# Altium schematic symbol library HC-49.SchLib: 1 symbol
Pins are listed as number, name and electrical type; pins without a type are passive.

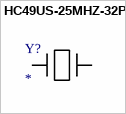
[diagram p0: symbol HC49US-25MHZ-32P]

## HC49US-25MHZ-32P
designator Y?
Imported; Manufacturer_Part_Number: HC49/US-25MHz-32pF-3OT-30-EXT-SMD-H25-TR; Vendor: Rami Technology; C: Copyright (C) 2015 Accelerated Designs. All rights reserved; Copyright: Copyright (C) 2015 Accelerated Designs. All rights reserved; RefDes: RefDes; Type: DEV; Value: Value
footprint H25
pins: 1, 2